# EAGLE library part PMOD6 (library xess)
6-Pin PMOD Socket/Header 4 data I/O pins, GND, PWR.
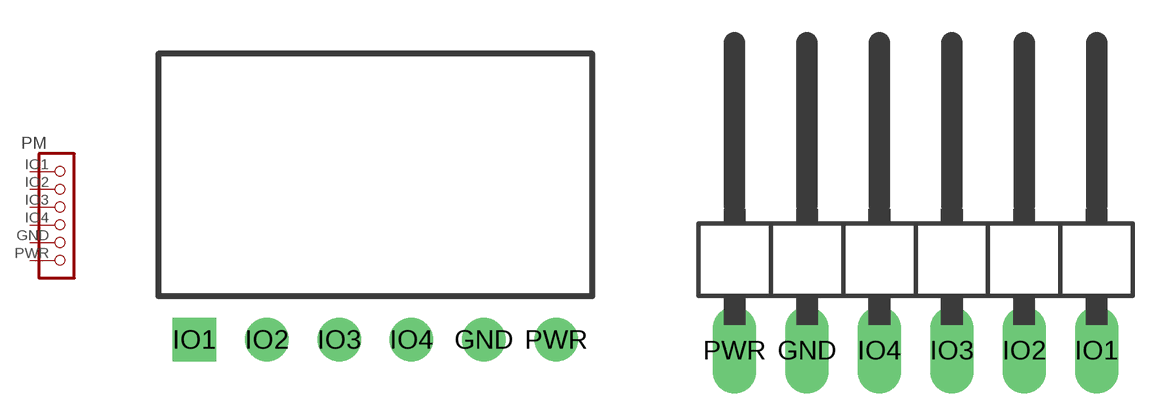
[diagram p140: symbol with the pads of PMOD6-SOCKET; footprints PMOD6-SOCKET, PMOD6-HEADER]

Designator prefix PM

## PMOD6SOCKET  [PMOD6-SOCKET]
GND  GND  pas
IO1  IO1  pas
IO2  IO2  pas
IO3  IO3  pas
IO4  IO4  pas
PWR  PWR  pas

## PMOD6HEADER  [PMOD6-HEADER]
Pads as for PMOD6-SOCKET

## Footprint PMOD6-SOCKET (pad centres in mm)
drill 1.016 round: GND 3.81,0; IO2 -3.81,0; IO3 -1.27,0; IO4 1.27,0; PWR 6.35,0
drill 1.016 square: IO1 -6.35,0

## Footprint PMOD6-HEADER (pad centres in mm)
PIN HEADER
drill 1.016 long: GND -3.81,-3.81; IO1 6.35,-3.81; IO2 3.81,-3.81; IO3 1.27,-3.81; IO4 -1.27,-3.81; PWR -6.35,-3.81